# Altium schematic symbol library EMG sensors.SchLib: 11 symbols
Pins are listed as number, name and electrical type; pins without a type are passive.

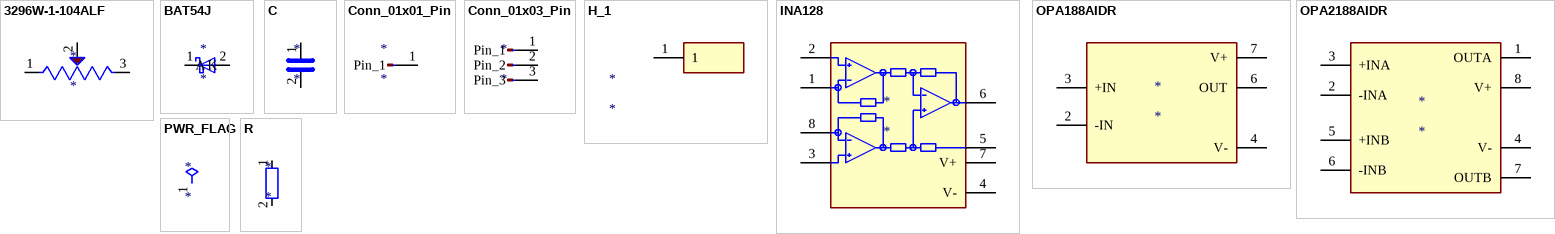
[diagram p0: symbols 3296W-1-104ALF to R]

## 3296W-1-104ALF
designator *
pins: 1, 2, 3

## BAT54J
designator *
pins: 1 K, 2 A

## C
designator *
pins: 1, 2

## Conn_01x01_Pin
designator *
pins: 1 Pin_1

## Conn_01x03_Pin
designator *
pins: 1 Pin_1, 2 Pin_2, 3 Pin_3

## H_1
designator *
pins: 1

## INA128
designator *
pins: 1, 2, 3, 4 V-, 5, 6, 7 V+, 8

## OPA188AIDR
designator *
pins: 2 -IN, 3 +IN, 4 V-, 6 OUT, 7 V+

## OPA2188AIDR
designator *
pins: 1 OUTA, 2 -INA, 3 +INA, 4 V-, 5 +INB, 6 -INB, 7 OUTB, 8 V+

## PWR_FLAG
designator *  (graphical)
pins: 1

## R
designator *
pins: 1, 2